# Altium footprint library gaoguang.PcbLib: 22 footprints (part 2 of 2)
Each footprint in its own frame and in the unit in brackets; x right, y up, seen from the top. Pads: shape width x height; smd on the part's side, far side on the other; paste and mask are expansions set on the pad; w line width, h text height; cw(c..) or ccw(c..) is an arc to the next point about the centre after c.
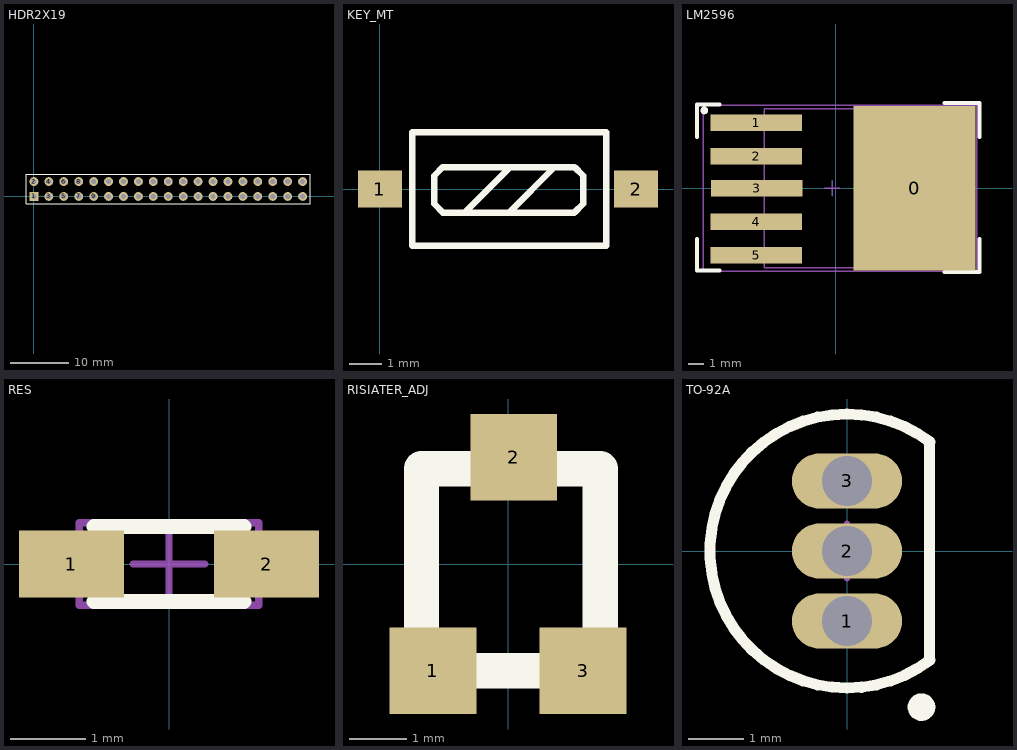
[diagram p1: the footprints below, top view; thin cyan lines are the x and y axes]

## HDR2X19 [mm] "Connector; Header; 19x2 Position"
pads (38):
  rect 1.5x1.5 hole 0.9: 1(0,0)
  round 1.5 hole 0.9: 2(0,2.54) 3(2.54,0) 4(2.54,2.54) 5(5.08,0) 6(5.08,2.54) 7(7.62,0) 8(7.62,2.54) 9(10.16,0) 10(10.16,2.54) 11(12.7,0) 12(12.7,2.54) 13(15.24,0) 14(15.24,2.54) 15(17.78,0) 16(17.78,2.54) 17(20.32,0) 18(20.32,2.54) 19(22.86,0) 20(22.86,2.54) 21(25.4,0) 22(25.4,2.54) 23(27.94,0) 24(27.94,2.54) 25(30.48,0) 26(30.48,2.54) 27(33.02,0) 28(33.02,2.54) 29(35.56,0) 30(35.56,2.54) 31(38.1,0) 32(38.1,2.54) 33(40.64,0) 34(40.64,2.54) 35(43.18,0) 36(43.18,2.54) 37(45.72,0) 38(45.72,2.54)
Top Overlay:
  lines w0.2: -1.27,-1.27 46.99,-1.27 46.99,3.81 -1.27,3.81 -1.27,-1.27

## KEY_MT [mm]
pads (2):
  rect 1.354x1.152 smd: 1(0,0) 2(7.93,0)
Top Overlay:
  lines w0.2: 1.68,-0.46 1.95,-0.73 6.02,-0.73 6.29,-0.46 6.29,0.41 6.02,0.68 1.95,0.68 1.68,0.41 1.68,-0.45 ; 2.625,-0.73 4.035,0.68 ; 4,-0.73 5.4,0.67 ; 1,-1.75 7,-1.75 7,1.75 1,1.75 1,-1.75

## LM2596 [mm]
pads (6):
  rect 8x10.8 smd: 0(5.168,0)
  rect 6x1.07 smd: 1(-5.2,4.3) 2(-5.2,2.1) 3(-5.168,0) 4(-5.2,-2.2) 5(-5.2,-4.4)
Top Overlay:
  circle w0.25: c-8.625,5.1 r0.125
  lines w0.254: -9.1,-3.327 -9.1,-5.4 -7.609,-5.4 ; -9.1,3.353 -9.1,5.5 -7.609,5.5 ; 7.123,-5.5 9.409,-5.5 9.409,-3.327 ; 7.123,5.6 9.409,5.6 9.409,3.353
Mechanical 13:
  lines w0.1: -4.688,-5.205 4.202,-5.205 4.202,5.205 -4.688,5.205 -4.688,-5.205
Mechanical 15:
  lines w0.1: -0.743,0 0.257,0 ; -0.243,-0.5 -0.243,0.5 ; -8.7,-5.455 9.232,-5.455 9.232,5.455 -8.7,5.455 -8.7,-5.455
3D body: height 4.65, standoff 0.1, extent -4.688,-5.205 4.202,5.205

## RES [mm]
pads (2):
  rect 1.4x0.9 smd: 1(-1.3,0) 2(1.3,0)
Top Overlay:
  lines w0.2: -1,-0.5 1,-0.5 ; -1,0.5 1,0.5
Mechanical 13:
  lines w0.1: -0.85,-0.475 0.85,-0.475 0.85,0.475 -0.85,0.475 -0.85,-0.475
Mechanical 15:
  lines w0.1: -0.475,0 0.475,0 ; 0,-0.475 0,0.475 ; -1.2,-0.55 1.2,-0.55 1.2,0.55 -1.2,0.55 -1.2,-0.55
3D body: height 0.9, standoff 0, extent -0.85,-0.475 0.85,0.475

## RISIATER_ADJ [mm]
pads (3):
  rect 1.5x1.5 all layers, no hole: 1(-1.3,-1.85) 2(0.1,1.85) 3(1.3,-1.85)
Top Overlay:
  lines w0.61: -1.5,-1.85 1.6,-1.85 1.6,1.65 -1.5,1.65 -1.5,-1.85

## TO-92A [mm] "TO, Flat Index; 3 In-Line, Axial Leads; Body Dia. 4.5mm; Leads 0.51 x 0.48 mm (max)"
height 6.86
pads (3):
  oval 2x1 hole 0.9: 1(0,-1.27) 2(0,0) 3(0,1.27)
Top Overlay:
  circle w0.25: c1.35,-2.83 r0.125
  lines w0.2: 1.5,-1.98 cw(c0,0) 1.5,1.98 1.5,-1.98
Mechanical 13:
  lines w0.1: 1.5,-1.98 cw(c0,0) 1.5,1.98 1.5,-1.98
Mechanical 15:
  lines w0.1: -0.5,0 0.5,0 ; 0,-0.5 0,0.5
3D body: height 6.86, standoff 2.2, extent -2.497,-2.497 1.501,2.497